# Altium schematic symbol library TPS2819DBVT.SchLib: 1 symbol
Pins are listed as number, name and electrical type; pins without a type are passive.

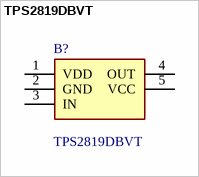
[diagram p0: symbol TPS2819DBVT]

## TPS2819DBVT
designator B?
Texas Instruments TPS2819DBVT, MOSFET Power Driver 2A, 4  14 V, Non-Inverting, 5-Pin SOT-23; Geometry.Height: 1.45mm; Mouser Part Number: 595-TPS2819DBVT; Mouser Price/Stock: https://www.mouser.co.uk/ProductDetail/Texas-Instruments/TPS2819DBVT/?qs=zwk82MlA57YGnSOBxjQpBw%3D%3D; Manufacturer_Name: Texas Instruments; Manufacturer_Part_Number: TPS2819DBVT; Datasheet Link: http://www.ti.com/lit/gpn/TPS2819
footprint SOT95P280X145-5N
pins: 1 VDD, 2 GND, 3 IN, 4 OUT, 5 VCC